# EAGLE library part E?1X09 (library apbteam_con-amp-he14)
Male header simple row, 9 positions
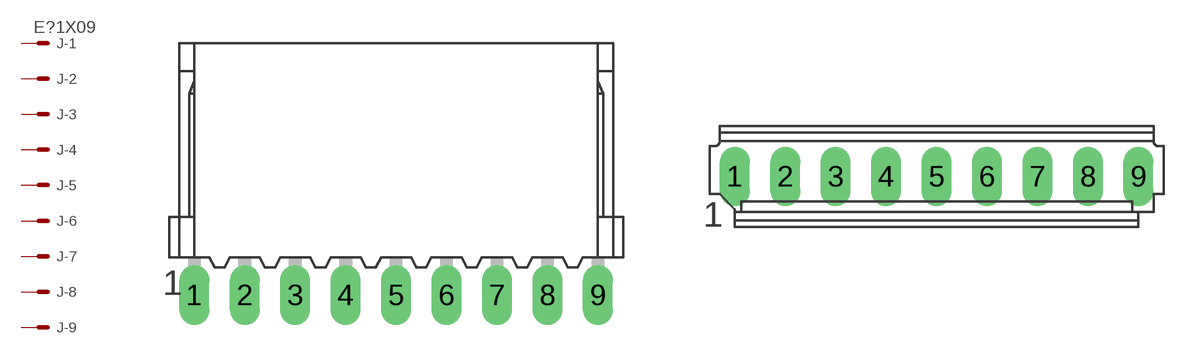
[diagram p3: symbol with the pads of EC1X09; footprints EC1X09, ED1X09]

Designator prefix J; gates -1=MS -2=M -3=M -4=M -5=M -6=M -7=M -8=M -9=M

## EC1X09  [EC1X09]
1  -1:S  pas
2  -2:S  pas
3  -3:S  pas
4  -4:S  pas
5  -5:S  pas
6  -6:S  pas
7  -7:S  pas
8  -8:S  pas
9  -9:S  pas

## ED1X09  [ED1X09]
Pads as for EC1X09

## Footprint EC1X09 (pad centres in mm)
Male header simple row, 90° exits, 9 positions HE14, tin plated: 0-281 698-9 HE14, gold plated version: 0-142 777-9 HE13, gold plated version: 0-281 699-9
drill 1 long: 1 -10.16,0; 2 -7.62,0; 3 -5.08,0; 4 -2.54,0; 5 0,0; 6 2.54,0; 7 5.08,0; 8 7.62,0; 9 10.16,0

## Footprint ED1X09 (pad centres in mm)
Male header simple row, straight exits, 9 positions HE14, tin plated: 0-281 695-9 HE14, gold plated version: 0-142 776-9 HE13, gold plated version: 0-281 696-9
drill 1 long: 1 -10.16,0; 2 -7.62,0; 3 -5.08,0; 4 -2.54,0; 5 0,0; 6 2.54,0; 7 5.08,0; 8 7.62,0; 9 10.16,0